# Altium schematic symbol library UBISWITCH_REV_A_MODULE.SchLib: 1 symbol
Pins are listed as number, name and electrical type; pins without a type are passive.

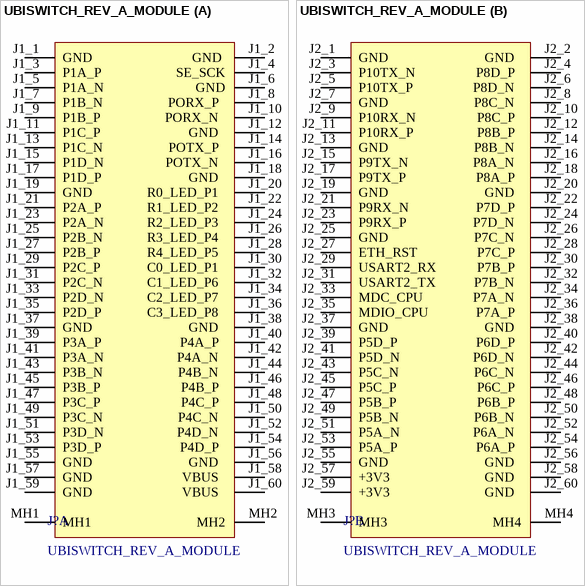
[diagram p0: symbol UBISWITCH_REV_A_MODULE]

## UBISWITCH_REV_A_MODULE
designator J?
footprint UBISWITCH_REV_A_MODULE (Footprint not found)
part A pins: J1_1 GND  (power), J1_2 GND  (power), J1_3 P1A_P, J1_4 SE_SCK, J1_5 P1A_N, J1_6 GND (power), J1_7 P1B_N  , J1_8 PORX_P  , J1_9 P1B_P  , J1_10 PORX_N  , J1_11 P1C_P  , J1_12 GND  , J1_13 P1C_N  , J1_14 POTX_P  , J1_15 P1D_N  , J1_16 POTX_N  , J1_17 P1D_P  , J1_18 GND   (power), J1_19 GND   (power), J1_20 R0_LED_P1  , J1_21 P2A_P  , J1_22 R1_LED_P2  , J1_23 P2A_N  , J1_24 R2_LED_P3  , J1_25 P2B_N  , J1_26 R3_LED_P4  , J1_27 P2B_P  , J1_28 R4_LED_P5  , J1_29 P2C_P  , J1_30 C0_LED_P1  , J1_31 P2C_N  , J1_32 C1_LED_P6  , J1_33 P2D_N  , J1_34 C2_LED_P7  , J1_35 P2D_P  , J1_36 C3_LED_P8  , J1_37 GND   (power), J1_38 GND   (power), J1_39 P3A_P  , J1_40 P4A_P  , J1_41 P3A_N  , J1_42 P4A_N  , J1_43 P3B_N  , J1_44 P4B_N  , J1_45 P3B_P  , J1_46 P4B_P  , J1_47 P3C_P  , J1_48 P4C_P  , J1_49 P3C_N  , J1_50 P4C_N  , J1_51 P3D_N  , J1_52 P4D_N  , J1_53 P3D_P  , J1_54 P4D_P  , J1_55 GND   (power), J1_56 GND   (power), J1_57 GND   (power), J1_58 VBUS   (power), J1_59 GND   (power), J1_60 VBUS   (power), MH1, MH2
part B pins: J2_1 GND  , J2_2 GND  , J2_3 P10TX_N  , J2_4 P8D_P  , J2_5 P10TX_P  , J2_6 P8D_N  , J2_7 GND  , J2_8 P8C_N  , J2_9 P10RX_N  , J2_10 P8C_P  , J2_11 P10RX_P  , J2_12 P8B_P  , J2_13 GND  , J2_14 P8B_N  , J2_15 P9TX_N  , J2_16 P8A_N  , J2_17 P9TX_P  , J2_18 P8A_P  , J2_19 GND  , J2_20 GND  , J2_21 P9RX_N  , J2_22 P7D_P  , J2_23 P9RX_P  , J2_24 P7D_N  , J2_25 GND  , J2_26 P7C_N  , J2_27 ETH_RST  , J2_28 P7C_P  , J2_29 USART2_RX  , J2_30 P7B_P  , J2_31 USART2_TX  , J2_32 P7B_N  , J2_33 MDC_CPU  , J2_34 P7A_N  , J2_35 MDIO_CPU  , J2_36 P7A_P  , J2_37 GND  , J2_38 GND  , J2_39 P5D_P  , J2_40 P6D_P  , J2_41 P5D_N  , J2_42 P6D_N  , J2_43 P5C_N  , J2_44 P6C_N  , J2_45 P5C_P  , J2_46 P6C_P  , J2_47 P5B_P  , J2_48 P6B_P  , J2_49 P5B_N  , J2_50 P6B_N  , J2_51 P5A_N  , J2_52 P6A_N  , J2_53 P5A_P  , J2_54 P6A_P  , J2_55 GND  , J2_56 GND  , J2_57 +3V3  , J2_58 GND  , J2_59 +3V3  , J2_60 GND  , MH3, MH4